# Altium schematic symbol library SamacSys.SchLib: 171 symbols (part 3 of 3)
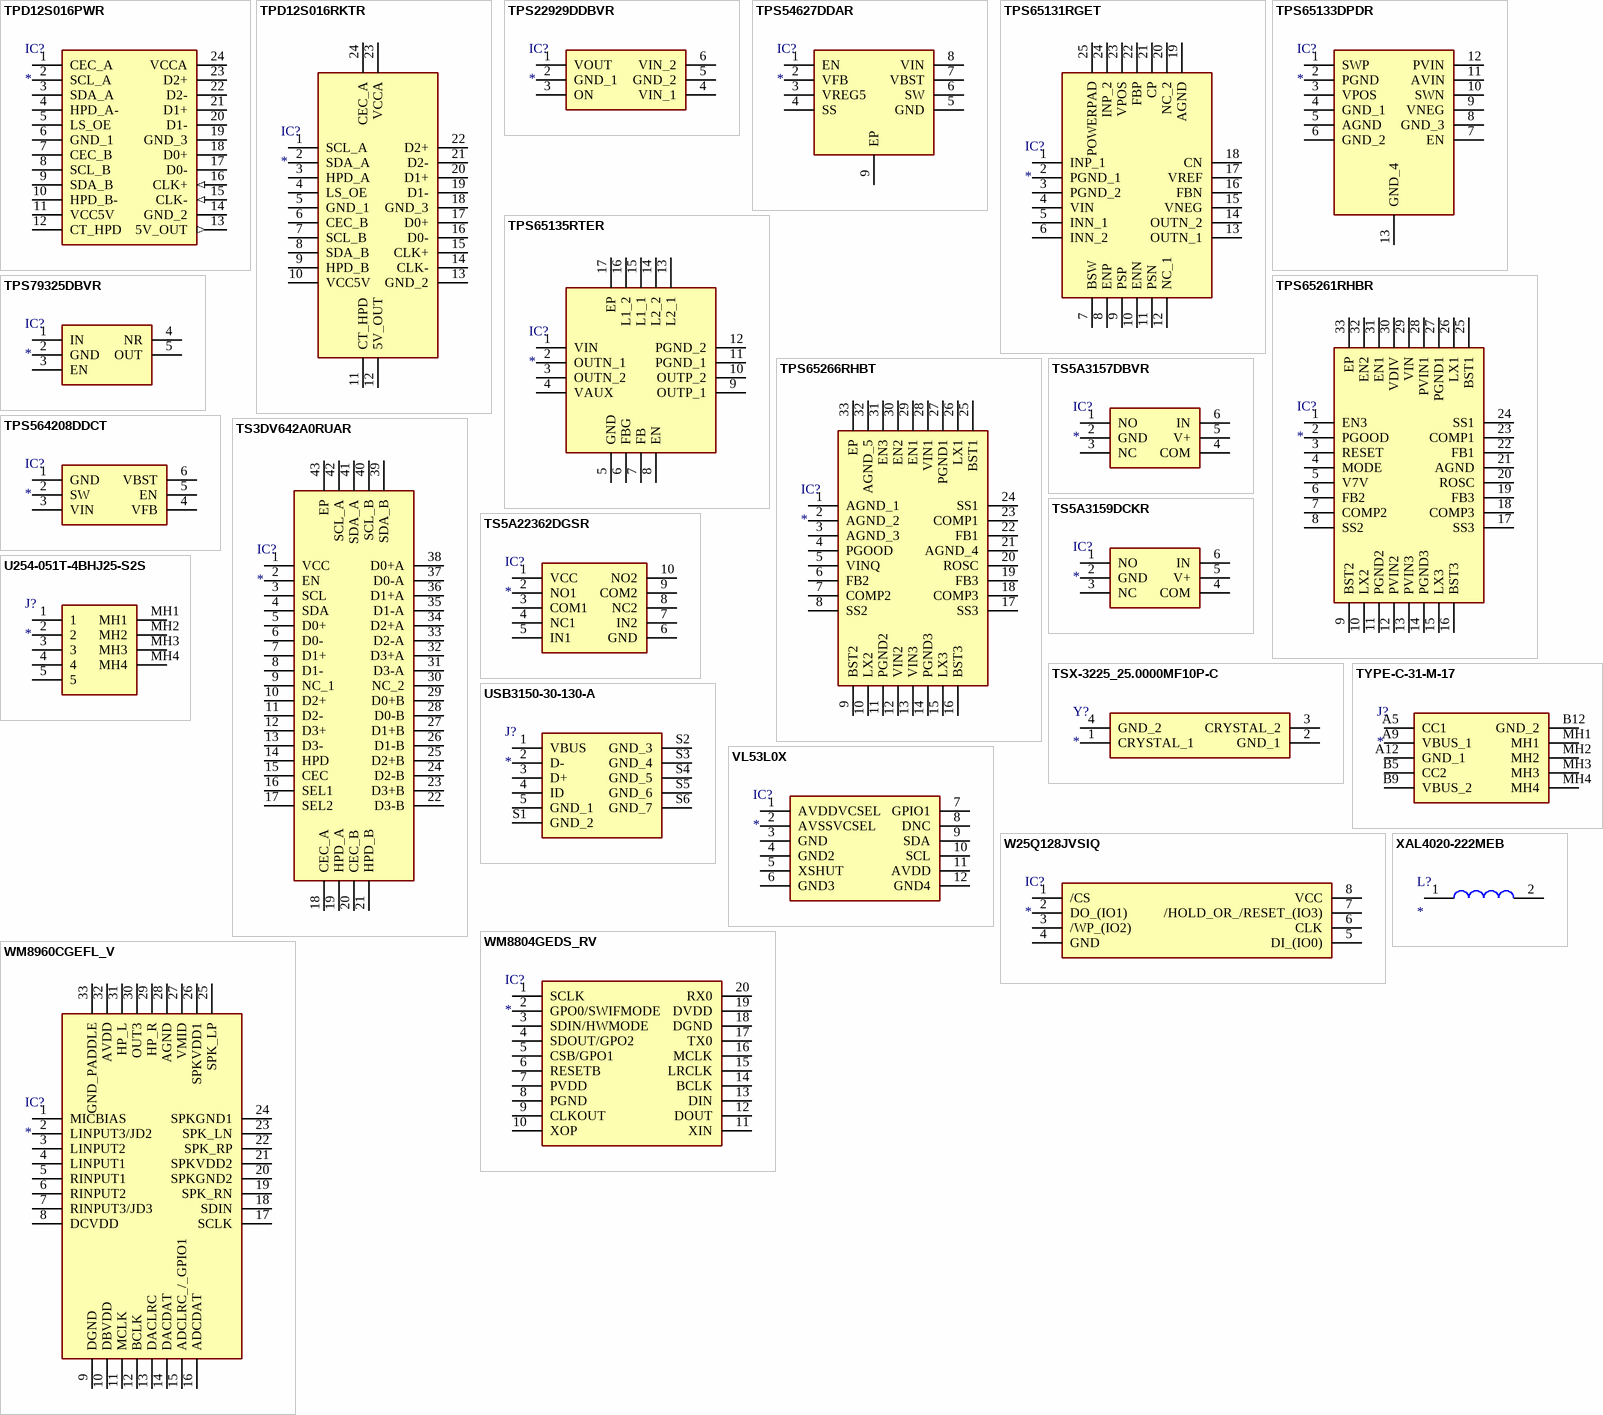
[diagram p8: symbols TPD12S016PWR to XAL4020-222MEB]

## WM8960CGEFL_V
designator IC?
Integrated Circuit; Manufacturer_Name: Cirrus Logic; Manufacturer_Part_Number: WM8960CGEFL/V; Datasheet Link: https://componentsearchengine.com/Datasheets/1/WM8960CGEFL_V.pdf; Height: 1mm; Mouser Part Number: 238-WM8960CGEFL/V; Mouser Price/Stock: https://www.mouser.com/Search/Refine.aspx?Keyword=238-WM8960CGEFL%2FV
footprint QFN50P500X500X100-33N
pins: 1 MICBIAS, 2 LINPUT3/JD2, 3 LINPUT2, 4 LINPUT1, 5 RINPUT1, 6 RINPUT2, 7 RINPUT3/JD3, 8 DCVDD, 9 DGND, 10 DBVDD, 11 MCLK, 12 BCLK, 13 DACLRC, 14 DACDAT, 15 ADCLRC_/_GPIO1, 16 ADCDAT, 17 SCLK, 18 SDIN, 19 SPK_RN, 20 SPKGND2, 21 SPKVDD2, 22 SPK_RP, 23 SPK_LN, 24 SPKGND1, 25 SPK_LP, 26 SPKVDD1, 27 VMID, 28 AGND, 29 HP_R, 30 OUT3, 31 HP_L, 32 AVDD, 33 GND_PADDLE

## XAL4020-222MEB
designator L?
Inductor; Manufacturer_Name: COILCRAFT; Manufacturer_Part_Number: XAL4020-222MEB; Datasheet Link: http://www.coilcraft.com/pdfs/xal4000.pdf; Height: 2.1mm; Mouser Part Number: 994-XAL4020-222MEB; Mouser Price/Stock: https://www.mouser.com/Search/Refine.aspx?Keyword=994-XAL4020-222MEB
footprint INDPM3240X210N
pins: 1, 2